# EAGLE library part PIC32MZ1024 (library PIC32MZxxxxEC(GHM))
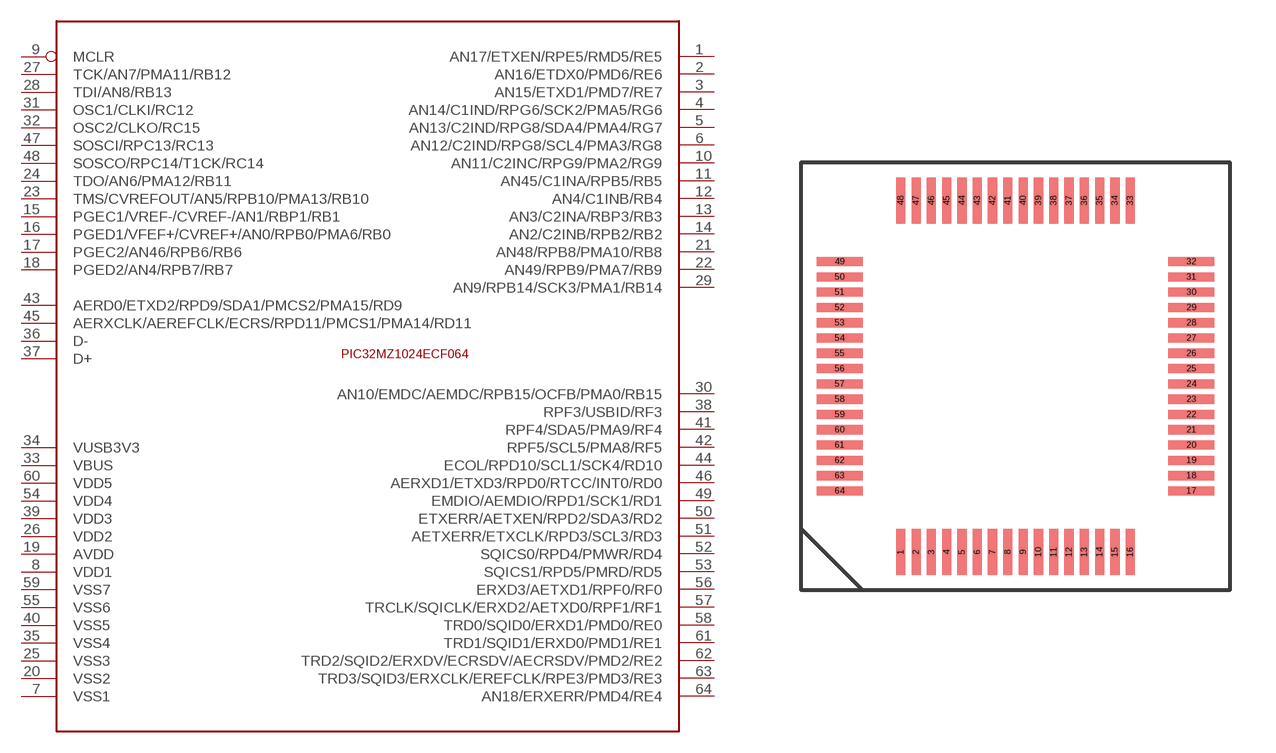
[diagram p0: symbol with the pads of TQFP-64; footprint TQFP-64]

Designator prefix -

## PIC32MZ1024  [TQFP-64]
1  AN17/ETXEN/RPE5/RMD5/RE5
2  AN16/ETDX0/PMD6/RE6
3  AN15/ETXD1/PMD7/RE7
4  AN14/C1IND/RPG6/SCK2/PMA5/RG6
5  AN13/C2IND/RPG8/SDA4/PMA4/RG7
6  AN12/C2IND/RPG8/SCL4/PMA3/RG8
7  VSS1
8  VDD1
9  MCLR  in
10  AN11/C2INC/RPG9/PMA2/RG9
11  AN45/C1INA/RPB5/RB5
12  AN4/C1INB/RB4
13  AN3/C2INA/RBP3/RB3
14  AN2/C2INB/RPB2/RB2
15  PGEC1/VREF-/CVREF-/AN1/RBP1/RB1
16  PGED1/VFEF+/CVREF+/AN0/RPB0/PMA6/RB0
17  PGEC2/AN46/RPB6/RB6
18  PGED2/AN4/RPB7/RB7
19  AVDD
20  VSS2
21  AN48/RPB8/PMA10/RB8
22  AN49/RPB9/PMA7/RB9
23  TMS/CVREFOUT/AN5/RPB10/PMA13/RB10
24  TDO/AN6/PMA12/RB11
25  VSS3
26  VDD2
27  TCK/AN7/PMA11/RB12
28  TDI/AN8/RB13
29  AN9/RPB14/SCK3/PMA1/RB14
30  AN10/EMDC/AEMDC/RPB15/OCFB/PMA0/RB15
31  OSC1/CLKI/RC12
32  OSC2/CLKO/RC15
33  VBUS
34  VUSB3V3
35  VSS4
36  D-
37  D+
38  RPF3/USBID/RF3
39  VDD3
40  VSS5
41  RPF4/SDA5/PMA9/RF4
42  RPF5/SCL5/PMA8/RF5
43  AERD0/ETXD2/RPD9/SDA1/PMCS2/PMA15/RD9
44  ECOL/RPD10/SCL1/SCK4/RD10
45  AERXCLK/AEREFCLK/ECRS/RPD11/PMCS1/PMA14/RD11
46  AERXD1/ETXD3/RPD0/RTCC/INT0/RD0
47  SOSCI/RPC13/RC13
48  SOSCO/RPC14/T1CK/RC14
49  EMDIO/AEMDIO/RPD1/SCK1/RD1
50  ETXERR/AETXEN/RPD2/SDA3/RD2
51  AETXERR/ETXCLK/RPD3/SCL3/RD3
52  SQICS0/RPD4/PMWR/RD4
53  SQICS1/RPD5/PMRD/RD5
54  VDD4
55  VSS6
56  ERXD3/AETXD1/RPF0/RF0
57  TRCLK/SQICLK/ERXD2/AETXD0/RPF1/RF1
58  TRD0/SQID0/ERXD1/PMD0/RE0
59  VSS7
60  VDD5
61  TRD1/SQID1/ERXD0/PMD1/RE1
62  TRD2/SQID2/ERXDV/ECRSDV/AECRSDV/PMD2/RE2
63  TRD3/SQID3/ERXCLK/EREFCLK/RPE3/PMD3/RE3
64  AN18/ERXERR/PMD4/RE4

## Footprint TQFP-64 (pad centres in mm)
smd 0.3 x 1.5: 1 -3.75,-5.75; 2 -3.25,-5.75; 3 -2.75,-5.75; 4 -2.25,-5.75; 5 -1.75,-5.75; 6 -1.25,-5.75; 7 -0.75,-5.75; 8 -0.25,-5.75; 9 0.25,-5.75; 10 0.75,-5.75; 11 1.25,-5.75; 12 1.75,-5.75; 13 2.25,-5.75; 14 2.75,-5.75; 15 3.25,-5.75; 16 3.75,-5.75; 33 3.75,5.75; 34 3.25,5.75; 35 2.75,5.75; 36 2.25,5.75; 37 1.75,5.75; 38 1.25,5.75; 39 0.75,5.75; 40 0.25,5.75; 41 -0.25,5.75; 42 -0.75,5.75; 43 -1.25,5.75; 44 -1.75,5.75; 45 -2.25,5.75; 46 -2.75,5.75; 47 -3.25,5.75; 48 -3.75,5.75
smd 1.5 x 0.3: 17 5.75,-3.75; 18 5.75,-3.25; 19 5.75,-2.75; 20 5.75,-2.25; 21 5.75,-1.75; 22 5.75,-1.25; 23 5.75,-0.75; 24 5.75,-0.25; 25 5.75,0.25; 26 5.75,0.75; 27 5.75,1.25; 28 5.75,1.75; 29 5.75,2.25; 30 5.75,2.75; 31 5.75,3.25; 32 5.75,3.75; 49 -5.75,3.75; 50 -5.75,3.25; 51 -5.75,2.75; 52 -5.75,2.25; 53 -5.75,1.75; 54 -5.75,1.25; 55 -5.75,0.75; 56 -5.75,0.25; 57 -5.75,-0.25; 58 -5.75,-0.75; 59 -5.75,-1.25; 60 -5.75,-1.75; 61 -5.75,-2.25; 62 -5.75,-2.75; 63 -5.75,-3.25; 64 -5.75,-3.75